# EAGLE library part MAX1779 (library di_ic)
Triple DC-DC Converter for TFT LCD
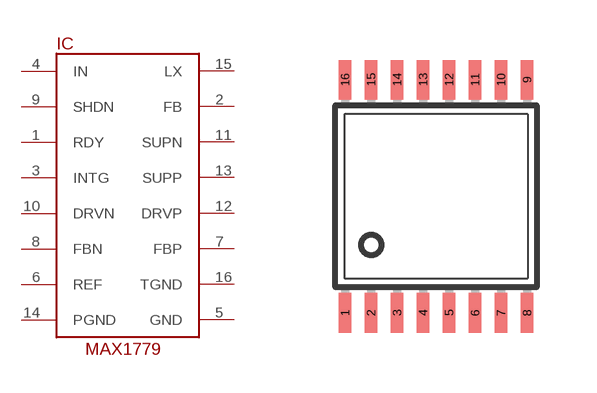
[diagram p26: symbol with the pads of TSSOP16; footprint TSSOP16]

Designator prefix IC

## MAX1779  [TSSOP16]
1  RDY
2  FB
3  INTG
4  IN
5  GND
6  REF
7  FBP
8  FBN
9  SHDN
10  DRVN
11  SUPN
12  DRVP
13  SUPP
14  PGND
15  LX
16  TGND

## Footprint TSSOP16 (pad centres in mm)
smd 0.305 x 0.991: 1 -2.275,-2.918; 2 -1.625,-2.918; 3 -0.975,-2.918; 4 -0.325,-2.918; 5 0.325,-2.918; 6 0.975,-2.918; 7 1.625,-2.918; 8 2.275,-2.918; 9 2.275,2.918; 10 1.625,2.918; 11 0.975,2.918; 12 0.325,2.918; 13 -0.325,2.918; 14 -0.975,2.918; 15 -1.625,2.918; 16 -2.275,2.918